# Altium footprint library Librairy_PCB.PcbLib: 13 footprints
Each footprint in its own frame and in the unit in brackets; x right, y up, seen from the top. Pads: shape width x height; smd on the part's side, far side on the other; paste and mask are expansions set on the pad; w line width, h text height; cw(c..) or ccw(c..) is an arc to the next point about the centre after c.
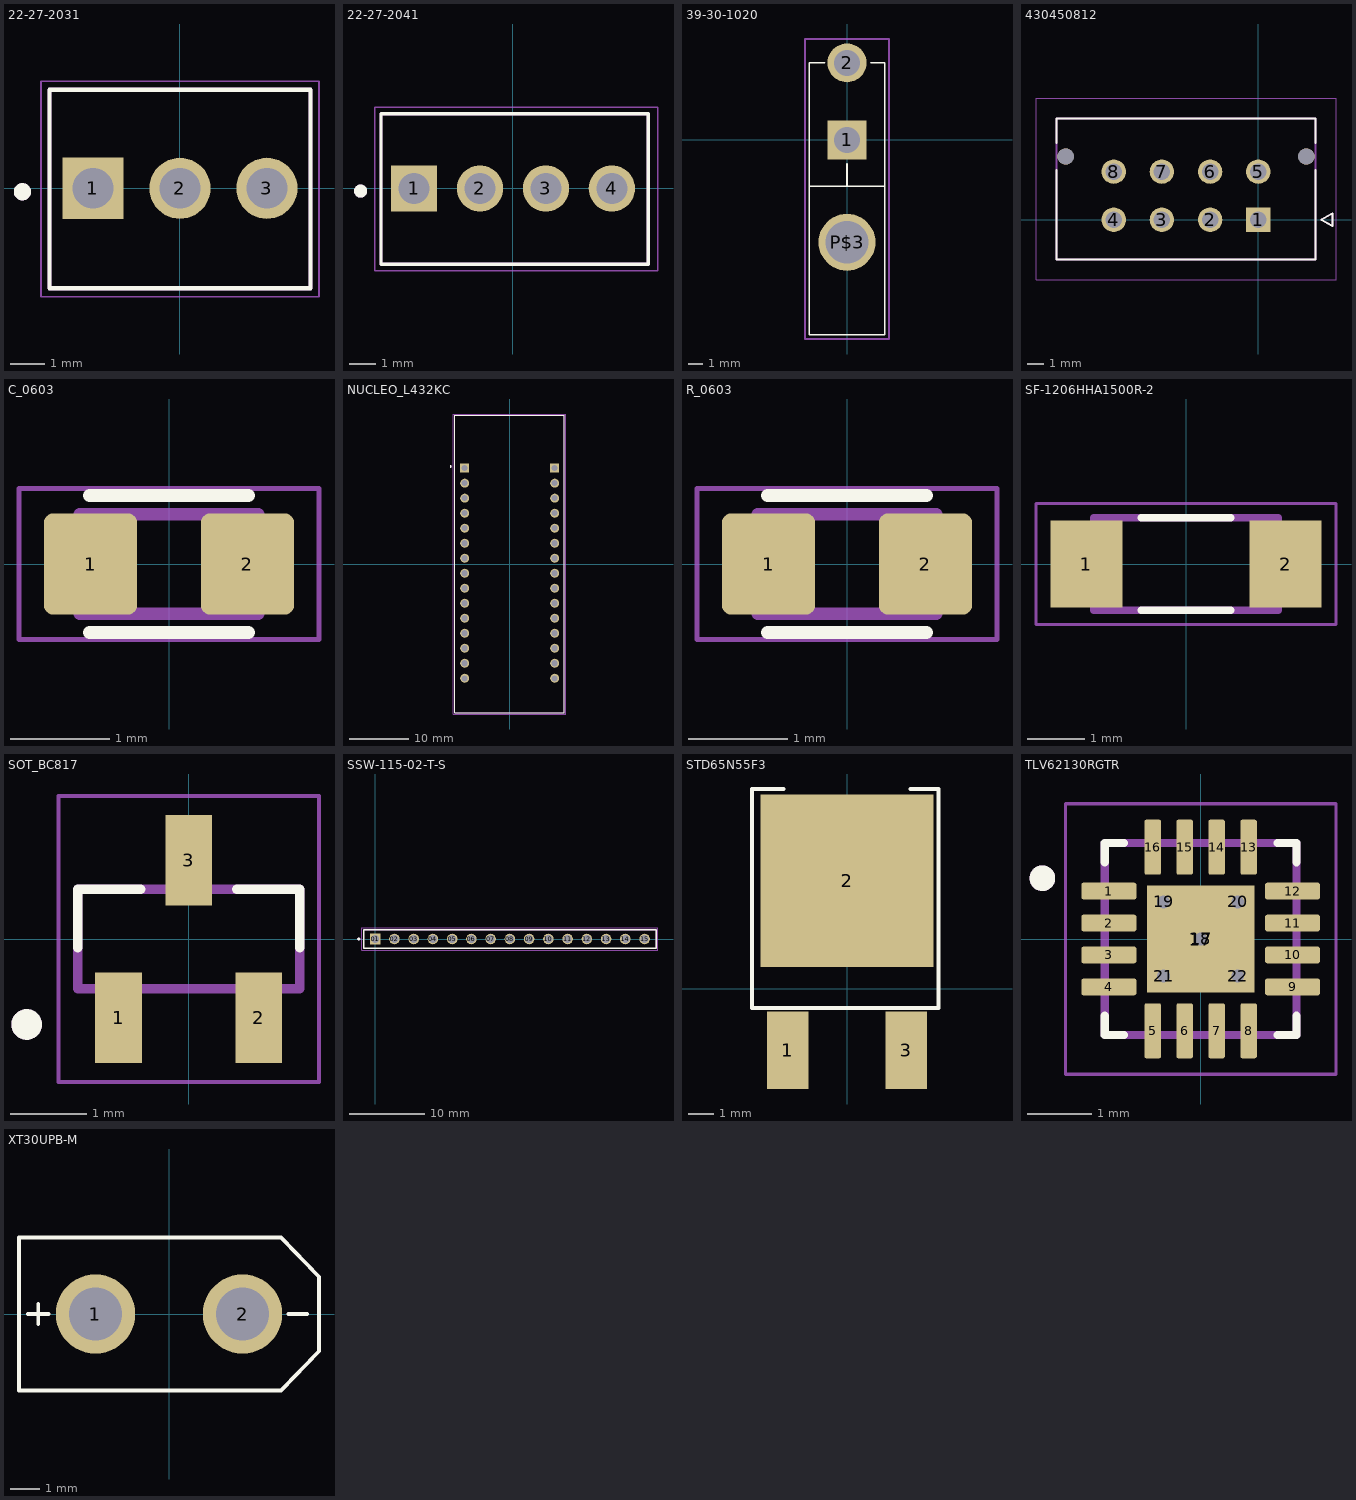
[diagram p0: the footprints below, top view; thin cyan lines are the x and y axes]

## 22-27-2031 [mm]
pads (3):
  rect 1.785x1.785 / inner round 1.785 / far side rect 1.785x1.785 hole 1.19: 1(-2.54,0)
  round 1.785 hole 1.19: 2(0,0) 3(2.54,0)
Top Overlay:
  circle w0.3: c-4.6,-0.1 r0.1
  lines w0.127: -3.81,-2.92 3.81,-2.92 3.81,2.88 -3.81,2.88 -3.81,-2.92
Mechanical 13:
  circle w0.3: c-4.6,-0.1 r0.1
  lines w0.127: -3.81,-2.92 -3.81,2.88 3.81,2.88 3.81,-2.92 -3.81,-2.92
Mechanical 15:
  lines w0.05: -4.06,-3.17 -4.06,3.13 4.06,3.13 4.06,-3.17 -4.06,-3.17
3D body "Molex 22-27-2031 v2.step": height 11.7, standoff -3.65, extent -3.917,-2.921 3.663,2.879

## 22-27-2041 [mm]
pads (4):
  rect 1.785x1.785 / inner round 1.785 / far side rect 1.785x1.785 hole 1.19: 1(-3.81,0)
  round 1.785 hole 1.19: 2(-1.27,0) 3(1.27,0) 4(3.81,0)
Top Overlay:
  circle w0.3: c-5.87,-0.1 r0.1
  lines w0.127: -5.08,-2.92 5.207,-2.92 5.207,-1.47 5.207,1.43 5.207,2.88 -5.08,2.88 -5.08,-2.92
Mechanical 13:
  circle w0.3: c-5.87,-0.1 r0.1
  lines w0.127: -5.08,-2.921 -5.08,2.88 5.207,2.88 5.207,-2.921 -5.08,-2.921
Mechanical 15:
  lines w0.05: 5.584,-3.17 5.584,3.13 ; 5.588,-3.17 -5.33,-3.17 -5.33,3.13 5.588,3.13
3D body "Molex 22-27-2041 v2.step": height 11.7, standoff -3.65, extent -5.05,-2.921 5.05,2.879

## 39-30-1020 [mm]
pads (3):
  rect 2.775x2.775 hole 1.85: 1(0,0)
  round 2.775 hole 1.85: 2(0,5.5)
  round 4.066 hole 3.05: P$3(0,-7.3)
Top Overlay:
  lines w0.127: -1.6,5.5 -2.7,5.5 -2.7,-3.3 ; 0,-1.7 0,-3.3 ; 1.7,5.5 2.7,5.5 2.7,-3.3 ; -2.7,-3.3 -2.7,-13.9 2.7,-13.9 2.7,-3.3 ; -2.7,-3.3 0,-3.3 ; 0,-3.3 2.7,-3.3
Mechanical 15:
  lines w0.127: -3,-14.2 -3,7.2 3,7.2 3,-14.2 -3,-14.2
3D body "39-30-1020--3DModel-STEP-418109.STEP": height 11.4, standoff -3.6, extent -2.7,-13.9 3.1,6.035

## 430450812 [mm]
pads (10):
  rect 1.52x1.52 / inner round 1.52 / far side rect 1.52x1.52 hole 1.02 mask+0.076: 1(0,0)
  round 1.52 hole 1.02 mask+0.076: 2(-3,0) 3(-6,0) 4(-9,0) 5(0,3) 6(-3,3) 7(-6,3) 8(-9,3)
  round 1.02 hole 1.02 unplated mask+0.076: ""(-12,3.94) ""(3,3.94)
Top Overlay:
  lines w0.127: -12.575,3.11 -12.575,-2.47 3.575,-2.47 3.575,3.11 ; -12.575,4.77 -12.575,6.3 3.575,6.3 3.575,4.77 ; 3.93,0 4.63,-0.4 4.63,0.4 3.93,0
Mechanical 13:
  lines w0.127: -12.575,-2.47 -12.575,6.3 3.575,6.3 3.575,-2.47 -12.575,-2.47 ; 3.93,0 4.63,-0.4 4.63,0.4 3.93,0
Mechanical 15:
  lines w0.05: -13.845,-3.74 -13.845,7.57 4.845,7.57 4.845,-3.74 -13.845,-3.74
3D body "43045-0812--3DModel-STEP-56544.STEP": height 9.91, standoff -3.18, extent -12.52,-2.54 3.63,6.23

## C_0603 [mm]
pads (2):
  rrect20% 0.94x1.02 smd: 1(-0.79,0) 2(0.79,0)
Top Overlay:
  lines w0.127: -0.8,-0.69 0.8,-0.69 ; -0.8,0.69 0.8,0.69
Mechanical 13:
  lines w0.127: -0.9,-0.5 -0.9,0.5 0.9,0.5 0.9,-0.5 -0.9,-0.5
Mechanical 15:
  lines w0.05: -1.51,-0.76 -1.51,0.76 1.51,0.76 1.51,-0.76 -1.51,-0.76

## NUCLEO_L432KC [mm]
pads (30):
  rect 1.53x1.53 hole 1.02: CN3_1(-7.62,16.215) CN4_1(7.62,16.215)
  round 1.53 hole 1.02: CN3_2(-7.62,13.675) CN3_3(-7.62,11.135) CN3_4(-7.62,8.595) CN3_5(-7.62,6.055) CN3_6(-7.62,3.515) CN3_7(-7.62,0.975) CN3_8(-7.62,-1.565) CN3_9(-7.62,-4.105) CN3_10(-7.62,-6.645) CN3_11(-7.62,-9.185) CN3_12(-7.62,-11.725) CN3_13(-7.62,-14.265) CN3_14(-7.62,-16.805) CN3_15(-7.62,-19.345) CN4_2(7.62,13.675) CN4_3(7.62,11.135) CN4_4(7.62,8.595) CN4_5(7.62,6.055) CN4_6(7.62,3.515) CN4_7(7.62,0.975) CN4_8(7.62,-1.565) CN4_9(7.62,-4.105) CN4_10(7.62,-6.645) CN4_11(7.62,-9.185) CN4_12(7.62,-11.725) CN4_13(7.62,-14.265) CN4_14(7.62,-16.805) CN4_15(7.62,-19.345)
Top Overlay:
  circle w0.2: c-10,16.5 r0.1
  lines w0.127: -9.27,-25.145 9.27,-25.145 9.27,25.145 -9.27,25.145 -9.27,-25.145
Mechanical 13:
  circle w0.2: c-10,16.5 r0.1
  lines w0.127: -9.27,-25.145 -9.27,25.145 9.27,25.145 9.27,-25.145 -9.27,-25.145
Mechanical 15:
  lines w0.05: -9.52,-25.395 -9.52,25.395 9.52,25.395 9.52,-25.395 -9.52,-25.395
3D body "NUCLEO-L432KC--3DModel-STEP-56544.STEP": height 8.5, standoff -6, extent -9.147,-25.692 9.398,26.311

## R_0603 [mm]
pads (2):
  rrect20% 0.94x1.02 smd: 1(-0.79,0) 2(0.79,0)
Top Overlay:
  lines w0.127: -0.8,-0.69 0.8,-0.69 ; -0.8,0.69 0.8,0.69
Mechanical 13:
  lines w0.127: -0.9,-0.5 -0.9,0.5 0.9,0.5 0.9,-0.5 -0.9,-0.5
Mechanical 15:
  lines w0.05: -1.51,-0.76 -1.51,0.76 1.51,0.76 1.51,-0.76 -1.51,-0.76

## SF-1206HHA1500R-2 [mm]
pads (2):
  rect 1.25x1.5 smd: 1(-1.725,0) 2(1.725,0)
Top Overlay:
  lines w0.127: -0.78,-0.8 0.78,-0.8 ; -0.78,0.8 0.78,0.8
Mechanical 13:
  lines w0.127: -1.6,-0.8 1.6,-0.8 1.6,0.8 -1.6,0.8 -1.6,-0.8
Mechanical 15:
  lines w0.05: -2.6,-1.05 2.6,-1.05 2.6,1.05 -2.6,1.05 -2.6,-1.05

## SOT_BC817 [mm]
pads (3):
  rect 0.61x1.18 smd: 1(-0.915,-1.025) 2(0.915,-1.025) 3(0,1.025)
Top Overlay:
  circle w0.2: c-2.115,-1.115 r0.1
  lines w0.127: -1.45,-0.115 -1.45,0.65 -0.625,0.65 ; 0.625,0.65 1.45,0.65 1.45,-0.115
Mechanical 13:
  circle w0.2: c-2.115,-1.115 r0.1
  lines w0.127: -1.45,-0.65 1.45,-0.65 1.45,0.65 -1.45,0.65 -1.45,-0.65
Mechanical 15:
  lines w0.05: -1.7,-1.865 -1.7,1.865 1.7,1.865 1.7,-1.865 -1.7,-1.865
3D body "step_temp.STEP": height 1.15, standoff 0, extent -1.45,-1.2 1.45,1.2

## SSW-115-02-T-S [mm]
pads (15):
  rect 1.39x1.39 / inner round 1.39 / far side rect 1.39x1.39 hole 1.04: 01(0,0)
  round 1.39 hole 1.04: 02(2.54,0) 03(5.08,0) 04(7.62,0) 05(10.16,0) 06(12.7,0) 07(15.24,0) 08(17.78,0) 09(20.32,0) 10(22.86,0) 11(25.4,0) 12(27.94,0) 13(30.48,0) 14(33.02,0) 15(35.56,0)
Top Overlay:
  circle w0.2: c-2.175,0 r0.1
  lines w0.2: -1.525,-1.206 -1.525,1.206 37.085,1.206 37.085,-1.206 -1.525,-1.206
Mechanical 13:
  circle w0.2: c-2.175,0 r0.1
  lines w0.1: -1.525,-1.206 -1.525,1.206 ; -1.525,-1.206 37.085,-1.206 ; -1.525,-1.206 -1.525,1.206 ; -1.525,1.206 37.085,1.206 ; -1.525,1.206 37.085,1.206 ; 37.085,-1.206 37.085,1.206 ; 37.085,-1.206 37.085,1.206
Mechanical 15:
  lines w0.05: -1.775,-1.456 -1.775,1.456 37.335,1.456 37.335,-1.456 -1.775,-1.456
3D body "SSW-115-02-T-S.stp": height 8.51, standoff -4.93, extent -1.524,-1.143 37.084,1.27

## STD65N55F3 [mm]
pads (3):
  rect 1.6x3 smd: 1(-2.3,-2.4) 3(2.3,-2.4)
  rect 6.7x6.7 smd: 2(0,4.191)
Top Overlay:
  lines w0.152: -2.464,7.747 -3.683,7.747 -3.683,-0.762 3.556,-0.762 3.556,7.747 2.464,7.747
Mechanical 13:
  lines w0.152: -2.464,2.972 2.464,2.972

## TLV62130RGTR [mm]
pads (22):
  rrect25% 0.86x0.26 smd: 1(-1.435,0.75) 2(-1.435,0.25) 3(-1.435,-0.25) 4(-1.435,-0.75) 9(1.435,-0.75) 10(1.435,-0.25) 11(1.435,0.25) 12(1.435,0.75)
  rrect25% 0.26x0.86 smd: 5(-0.75,-1.435) 6(-0.25,-1.435) 7(0.25,-1.435) 8(0.75,-1.435) 13(0.75,1.435) 14(0.25,1.435) 15(-0.25,1.435) 16(-0.75,1.435)
  rect 1.68x1.68 smd paste-2: 17(0,0)
  round 0.4 hole 0.2 mask+0: 18(0,0) 19(-0.58,0.58) 20(0.58,0.58) 21(-0.58,-0.58) 22(0.58,-0.58)
Top Overlay:
  circle w0.2: c-2.475,0.95 r0.1
  lines w0.127: -1.5,-1.2 -1.5,-1.5 -1.2,-1.5 ; -1.5,1.2 -1.5,1.5 -1.2,1.5 ; 1.2,-1.5 1.5,-1.5 1.5,-1.2 ; 1.2,1.5 1.5,1.5 1.5,1.2
Top Paste:
  region: 0.53,-0.53 -0.53,-0.53 -0.53,0.53 0.53,0.53
Mechanical 13:
  circle w0.2: c-2.475,0.95 r0.1
  lines w0.127: -1.5,-1.5 1.5,-1.5 1.5,1.5 -1.5,1.5 -1.5,-1.5
Mechanical 15:
  lines w0.05: -2.115,-2.115 2.115,-2.115 2.115,2.115 -2.115,2.115 -2.115,-2.115

## XT30UPB-M [mm]
pads (2):
  round 2.7 hole 1.8: 1(-2.5,0) 2(2.5,0)
Top Overlay:
  lines w0.127: -4.8,0 -4.1,0 ; -4.445,-0.35 -4.445,0.35 ; 4.064,0 4.699,0 ; -5.1,-2.6 -5.1,2.6 3.81,2.6 5.1,1.27 5.1,-1.27 3.81,-2.6 -5.1,-2.6